# EAGLE library part ZIF64 (library 31813 Neutron Readout PCB)
HARTING
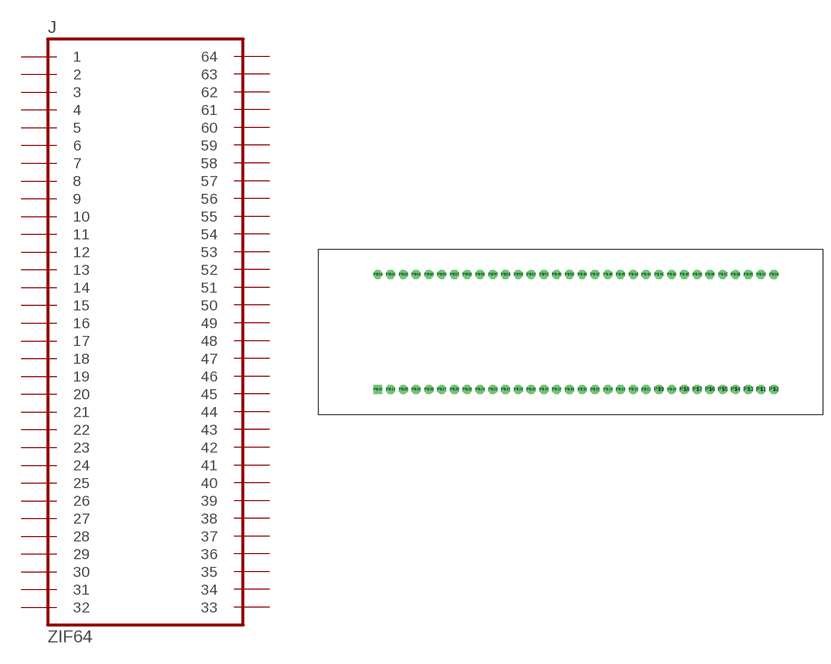
[diagram p19: symbol with the pads of ZIF64; footprint ZIF64]

Designator prefix J

## ZIF64  [ZIF64]
P$1  1  pas
P$2  2  pas
P$3  3  pas
P$4  4  pas
P$5  5  pas
P$6  6  pas
P$7  7  pas
P$8  8  pas
P$9  9  pas
P$10  10  pas
P$11  11  pas
P$12  12  pas
P$13  13  pas
P$14  14  pas
P$15  15  pas
P$16  16  pas
P$17  17  pas
P$18  18  pas
P$19  19  pas
P$20  20  pas
P$21  21  pas
P$22  22  pas
P$23  23  pas
P$24  24  pas
P$25  25  pas
P$26  26  pas
P$27  27  pas
P$28  28  pas
P$29  29  pas
P$30  30  pas
P$31  31  pas
P$32  32  pas
P$33  33  pas
P$34  34  pas
P$35  35  pas
P$36  36  pas
P$37  37  pas
P$38  38  pas
P$39  39  pas
P$40  40  pas
P$41  41  pas
P$42  42  pas
P$43  43  pas
P$44  44  pas
P$45  45  pas
P$46  46  pas
P$47  47  pas
P$48  48  pas
P$49  49  pas
P$50  50  pas
P$51  51  pas
P$52  52  pas
P$53  53  pas
P$54  54  pas
P$55  55  pas
P$56  56  pas
P$57  57  pas
P$58  58  pas
P$59  59  pas
P$60  60  pas
P$61  61  pas
P$62  62  pas
P$63  63  pas
P$64  64  pas

## Footprint ZIF64 (pad centres in mm)
HARTING
drill 0.8 pad 1.778 octagon: P$1 38.481,-12.7; P$2 41.021,-12.7; P$3 35.941,-12.7; P$4 33.401,-12.7; P$5 30.861,-12.7; P$6 28.321,-12.7; P$7 25.781,-12.7; P$8 23.241,-12.7; P$9 18.161,-12.7; P$10 20.701,-12.7; P$11 15.621,-12.7; P$12 13.081,-12.7; P$13 10.541,-12.7; P$14 8.001,-12.7; P$15 5.461,-12.7; P$16 2.921,-12.7; P$17 -2.159,-12.7; P$18 0.381,-12.7; P$19 -4.699,-12.7; P$20 -7.239,-12.7; P$21 -9.779,-12.7; P$22 -12.319,-12.7; P$23 -14.859,-12.7; P$24 -17.399,-12.7; P$25 -22.479,-12.7; P$26 -19.939,-12.7; P$27 -25.019,-12.7; P$28 -27.559,-12.7; P$29 -30.099,-12.7; P$30 -32.639,-12.7; P$31 -35.179,-12.7; P$33 38.481,10.16; P$34 41.021,10.16; P$35 35.941,10.16; P$36 33.401,10.16; P$37 30.861,10.16; P$38 28.321,10.16; P$39 25.781,10.16; P$40 23.241,10.16; P$41 18.161,10.16; P$42 20.701,10.16; P$43 15.621,10.16; P$44 13.081,10.16; P$45 10.541,10.16; P$46 8.001,10.16; P$47 5.461,10.16; P$48 2.921,10.16; P$49 -2.159,10.16; P$50 0.381,10.16; P$51 -4.699,10.16; P$52 -7.239,10.16; P$53 -9.779,10.16; P$54 -12.319,10.16; P$55 -14.859,10.16; P$56 -17.399,10.16; P$57 -22.479,10.16; P$58 -19.939,10.16; P$59 -25.019,10.16; P$60 -27.559,10.16; P$61 -30.099,10.16; P$62 -32.639,10.16; P$63 -35.179,10.16; P$64 -37.719,10.16
drill 0.8 pad 1.778 square: P$32 -37.719,-12.7